# EAGLE library part AD5541A? (library Analog Devices)
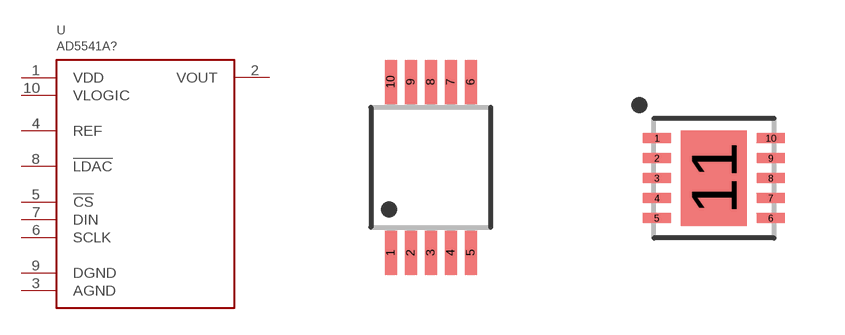
[diagram p34: symbol with the pads of MSOP10; footprints MSOP10, DFN10]

Designator prefix U

## AD5541ARMZ  [MSOP10]
1  VDD
2  VOUT
3  AGND
4  REF
5  !CS
6  SCLK
7  DIN
8  !LDAC
9  DGND
10  VLOGIC

## AD5541ACPZ  [DFN10]
1  VDD
2  VOUT
3  AGND
4  REF
5  !CS
6  SCLK
7  DIN
8  !LDAC
9  DGND
10  VLOGIC
11  AGND

## Footprint MSOP10 (pad centres in mm)
smd 0.3 x 1.1: 1 -1,-2.14; 2 -0.5,-2.14; 3 0,-2.14; 4 0.5,-2.14; 5 1,-2.14; 6 1,2.14; 7 0.5,2.14; 8 0,2.14; 9 -0.5,2.14; 10 -1,2.14

## Footprint DFN10 (pad centres in mm)
smd 0.7 x 0.25: 1 -1.425,1; 2 -1.425,0.5; 3 -1.425,0; 4 -1.425,-0.5; 5 -1.425,-1; 6 1.425,-1; 7 1.425,-0.5; 8 1.425,0; 9 1.425,0.5; 10 1.425,1
smd 1.65 x 2.38: 11 0,0